# Altium schematic symbol library WWJ_BIGCOINER_ES04.SCHLIB: 38 symbols
Pins are listed as number, name and electrical type; pins without a type are passive.

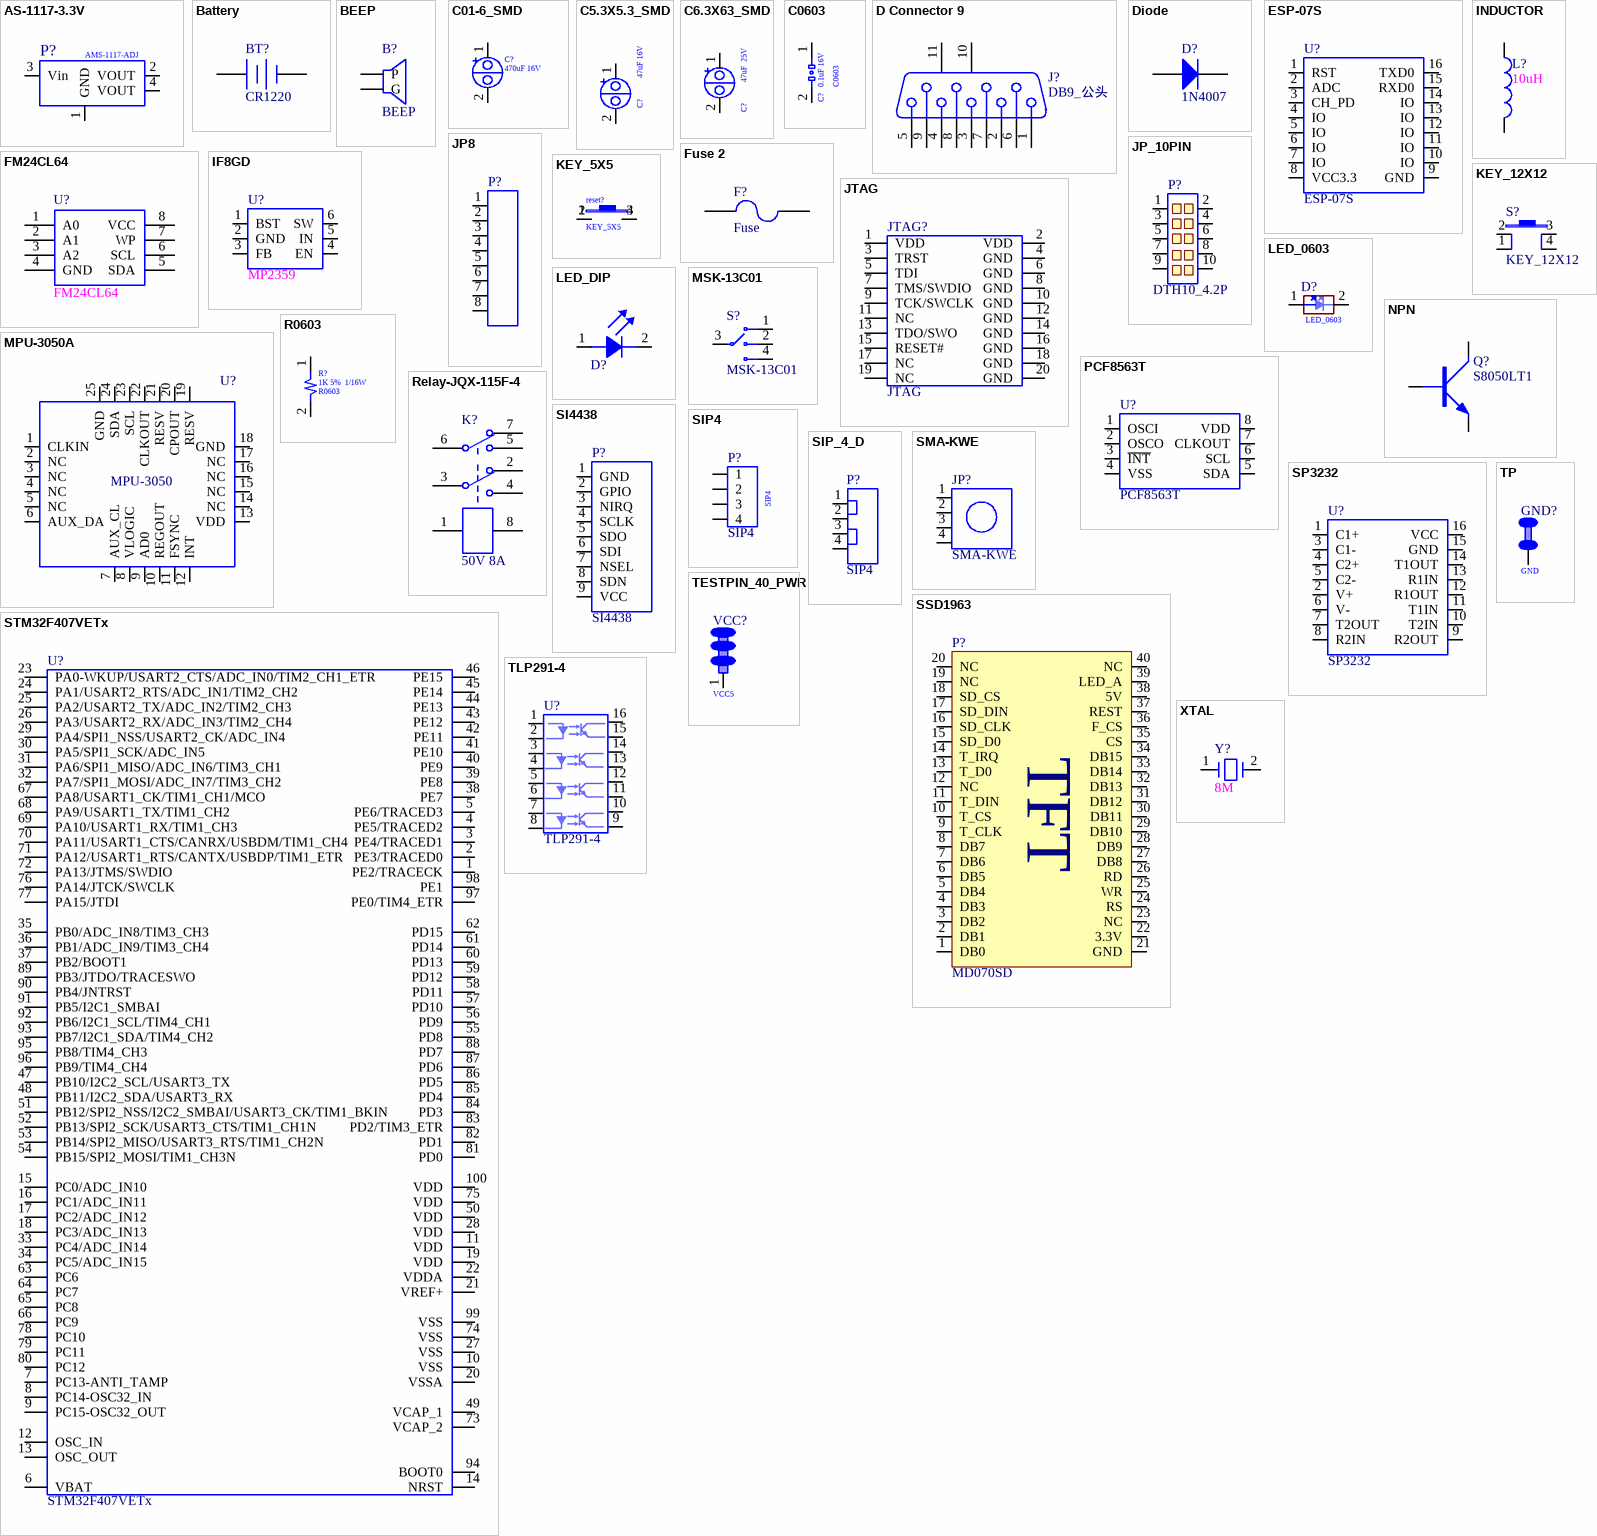
[diagram p0: symbols AS-1117-3.3V to XTAL]

## AS-1117-3.3V
designator P?, comment AMS-1117-ADJ
Value: AMS-1117-ADJ
footprint SOT_223 (ASM117_3.3 packgae)
pins: 1 GND, 2 VOUT, 3 Vin, 4 VOUT

## Battery
designator BT?, comment CR1220
Multicell Battery; Published: 24-Mar-1999; LatestRevisionDate: 17-Jul-2002; LatestRevisionNote: Re-released for DXP Platform.; PackageReference: BAT-2; Publisher: Altium Limited; PackageDescription: Battery; 2 Leads
footprint CR1220
pins: 1 +, 2 -
2 alternate drawings of the same symbol

## BEEP
designator B?
footprint BELL-5
pins: 1 P, 2 G

## C01-6_SMD
designator C?  value 470uF 16V  (hidden comment: C01-6_SMD)
CLASS: DISCRETE; Type: SMD; DEVICE: C01-6_SMD
footprint C10X10.5
pins: 1, 2

## C5.3X5.3_SMD
designator C?  value 47uF 16V  (hidden comment: C5.3X5.3_SMD)
CLASS: DISCRETE; Type: SMD; DEVICE: C5.3X5.3_SMD
footprint C5.3X5.3
pins: 1, 2

## C6.3X63_SMD
designator C?, comment value 47uF  25V  (hidden comment: C6.3X6.3_SMD)
Type: SMD; CLASS: DISCRETE; DEVICE: C6.3X6.3_SMD
footprint C6.3x6.3
pins: 1, 2

## C0603
designator C?  value 0.1uF 16V  (hidden comment: C0603)
CLASS: DISCRETE; Type: SMD; DEVICE: C0603; Value_1: C0603
footprint C0603
pins: 1, 2

## D Connector 9
designator J?, comment DB9_公头
Receptacle Assembly, 9 Position, Right Angle; PackageDocument: O; Positions: 9; Published: 15-Jun-2001; LatestRevisionDate: 17-Jul-2002; LatestRevisionNote: Re-released for DXP Platform.; DatasheetDocument: 1-Sep-1999; PackageReference: 788750; Publisher: Altium Limited; Orientation: Right Angle; Gender: Receptacle
footprint DSUB1.385-2H9 (Connector; D Subminiature; 9 Position; Right Angle; Pitch 1.385 mm)
signal-integrity model Connector
pins: 1, 2, 3, 4, 5, 6, 7, 8, 9, 10 MH1, 11 MH2

## Diode
designator D?, comment 1N4007
Default Diode; Published: 8-Jun-2000; LatestRevisionDate: 17-Jul-2002; LatestRevisionNote: Re-released for DXP Platform.; PackageVersion: Sep-1996; PackageReference: SMC; Publisher: Altium Limited; PackageDescription: DO-214-AB/SMC; 2 C-Bend Leads; Body 7.9 x 5.9 mm, inc. leads (LxW); Code_JEDEC: DO-214-AB
simulation model DIODE (Diode)
signal-integrity model Diode
footprint SMA
pins: 1 A, 2 K

## ESP-07S
designator U?
footprint ESP-07S
pins: 1 RST, 2 ADC, 3 CH_PD, 4 IO, 5 IO, 6 IO, 7 IO, 8 VCC3.3, 9 GND, 10 IO, 11 IO, 12 IO, 13 IO, 14 IO, 15 RXD0, 16 TXD0

## FM24CL64
designator U?
footprint SO-8
pins: 1 A0, 2 A1, 3 A2, 4 GND, 5 SDA, 6 SCL, 7 WP, 8 VCC

## Fuse 2
designator F?, comment Fuse
Published: 8-Jun-2000; LatestRevisionDate: 17-Jul-2002; LatestRevisionNote: Re-released for DXP Platform.; PackageReference: PIN-W2/E2.8; Publisher: Altium Limited; PackageDescription: Thru-Hole; 2 Leads
simulation model FUSE (Spice Subcircuit)
footprint R1210
pins: 1, 2

## IF8GD
designator U?, comment MP2359
footprint IF8GD
pins: 1 BST, 2 GND, 3 FB, 4 EN, 5 IN, 6 SW

## INDUCTOR
designator L?, comment 10uH
footprint L78X70MM_PIHD (L_78X70MM_PIHD)
pins: 1, 2

## JP8
designator P?
footprint DT11_8
pins: 1, 2, 3, 4, 5, 6, 7, 8

## JP_10PIN
designator P?, comment DTH10_4.2P
footprint 5557-10P
pins: 1, 2, 3, 4, 5, 6, 7, 8, 9, 10

## JTAG
designator JTAG?
footprint JTAG (ULINK_JTAG-20)
footprint JTAG_20
pins: 1 VDD, 2 VDD, 3 TRST, 4 GND, 5 TDI, 6 GND, 7 TMS/SWDIO, 8 GND, 9 TCK/SWCLK, 10 GND, 11 NC, 12 GND, 13 TDO/SWO, 14 GND, 15 RESET#, 16 GND, 17 NC, 18 GND, 19 NC, 20 GND

## KEY_5X5
designator reset?
footprint SW-RESET
pins: 1, 2, 3, 4

## KEY_12X12
designator S?
footprint KEY12X12
pins: 1, 2, 3, 4

## LED_0603
designator D?
Type: SMD; DEVICE: LED_0805; CLASS: DISCRETE; Value: LED_0603
footprint LED_0603
pins: 1, 2

## LED_DIP
designator D?  (value not drawn)
Value: DIODE
footprint LED_0603
pins: 1 A, 2 K

## MPU-3050A
designator U?, comment MPU-3050
footprint QFN50P400X400X90_HS-25N (QFN, 24-Leads, Body 4.00x4.00mm, Pitch 0.50mm, Thermal Pad 2.80x2.80mm, IPC Medium Density)
pins: 1 CLKIN, 2 NC, 3 NC, 4 NC, 5 NC, 6 AUX_DA, 7 AUX_CL, 8 VLOGIC, 9 AD0, 10 REGOUT, 11 FSYNC, 12 INT, 13 VDD, 14 NC, 15 NC, 16 NC, 17 NC, 18 GND, 19 RESV, 20 CPOUT, 21 RESV, 22 CLKOUT, 23 SCL, 24 SDA, 25 GND

## MSK-13C01
designator S?
footprint MSK-13C01
pins: 1, 2, 3, 4

## NPN
designator Q?, comment S8050LT1
footprint SOT-23-2
pins: B, C, E

## PCF8563T
designator U?
footprint SO-8
footprint SO-8
pins: 1 OSCI, 2 OSCO, 3 ~{INT}, 4 VSS, 5 SDA, 6 SCL, 7 CLKOUT, 8 VDD

## R0603
designator R?  value 1K 5%  1/16W  (hidden comment: R0603)
CLASS: DISCRETE; DEVICE: R0603; Type: SMD; Value_1: R0603
footprint R0603
pins: 1, 2

## Relay-JQX-115F-4
designator K?, comment 50V 8A
Dual-Pole Dual-Throw Relay; LatestRevisionDate: JQX-115F-4; PackageReference: DIP-P8; PackageDescription: Relay; 8 Leads
footprint JQX-115F-4
pins: 1, 2, 3, 4, 5, 6, 7, 8

## SI4438
designator P?
footprint SI4438
pins: 1 GND, 2 GPIO, 3 NIRQ, 4 SCLK, 5 SDO, 6 SDI, 7 NSEL, 8 SDN, 9 VCC

## SIP4
designator P?
Value: SIP4
footprint DT11
pins: 1, 2, 3, 4

## SIP_4_D
designator P?, comment SIP4
footprint DHT11
pins: 1, 2, 3, 4

## SMA-KWE
designator JP?
footprint MCX5.08-H5 (Connector; RF Coaxial, MCX, Thru-Hole; 5 Position; Right-Angle)
pins: 1, 2, 3, 4

## SP3232
designator U?
footprint SOIC16 (Small Outline; 16 Leads; Body Width 3.9 mm; Pitch 1.27 mm)
pins: 1 C1+, 2 V+, 3 C1-, 4 C2+, 5 C2-, 6 V-, 7 T2OUT, 8 R2IN, 9 R2OUT, 10 T2IN, 11 T1IN, 12 R1OUT, 13 R1IN, 14 T1OUT, 15 GND, 16 VCC

## SSD1963
designator P?, comment MD070SD
footprint MD070SD_40 (Connector; Header; 20x2 Position)
pins: 1 DB0, 2 DB1, 3 DB2, 4 DB3, 5 DB4, 6 DB5, 7 DB6, 8 DB7, 9 T_CLK, 10 T_CS, 11 T_DIN, 12 NC, 13 T_D0, 14 T_IRQ, 15 SD_D0, 16 SD_CLK, 17 SD_DIN, 18 SD_CS, 19 NC, 20 NC, 21 GND, 22 3.3V, 23 NC, 24 RS, 25 WR, 26 RD, 27 DB8, 28 DB9, 29 DB10, 30 DB11, 31 DB12, 32 DB13, 33 DB14, 34 DB15, 35 CS, 36 F_CS, 37 REST, 38 5V, 39 LED_A, 40 NC
text: TFT

## STM32F407VETx
designator U?
footprint LQFP100 (TSQFP, 100-Leads, Body 16.0x16.0mm (max), Pitch 0.50mm, IPC Medium Density)
pins: 1 PE2/TRACECK, 2 PE3/TRACED0, 3 PE4/TRACED1, 4 PE5/TRACED2, 5 PE6/TRACED3, 6 VBAT, 7 PC13-ANTI_TAMP, 8 PC14-OSC32_IN, 9 PC15-OSC32_OUT, 10 VSS, 11 VDD, 12 OSC_IN, 13 OSC_OUT, 14 NRST, 15 PC0/ADC_IN10, 16 PC1/ADC_IN11, 17 PC2/ADC_IN12, 18 PC3/ADC_IN13, 19 VDD, 20 VSSA, 21 VREF+, 22 VDDA, 23 PA0-WKUP/USART2_CTS/ADC_IN0/TIM2_CH1_ETR, 24 PA1/USART2_RTS/ADC_IN1/TIM2_CH2, 25 PA2/USART2_TX/ADC_IN2/TIM2_CH3, 26 PA3/USART2_RX/ADC_IN3/TIM2_CH4, 27 VSS, 28 VDD, 29 PA4/SPI1_NSS/USART2_CK/ADC_IN4, 30 PA5/SPI1_SCK/ADC_IN5, 31 PA6/SPI1_MISO/ADC_IN6/TIM3_CH1, 32 PA7/SPI1_MOSI/ADC_IN7/TIM3_CH2, 33 PC4/ADC_IN14, 34 PC5/ADC_IN15, 35 PB0/ADC_IN8/TIM3_CH3, 36 PB1/ADC_IN9/TIM3_CH4, 37 PB2/BOOT1, 38 PE7, 39 PE8, 40 PE9, 41 PE10, 42 PE11, 43 PE12, 44 PE13, 45 PE14, 46 PE15, 47 PB10/I2C2_SCL/USART3_TX, 48 PB11/I2C2_SDA/USART3_RX, 49 VCAP_1, 50 VDD, 51 PB12/SPI2_NSS/I2C2_SMBAI/USART3_CK/TIM1_BKIN, 52 PB13/SPI2_SCK/USART3_CTS/TIM1_CH1N, 53 PB14/SPI2_MISO/USART3_RTS/TIM1_CH2N, 54 PB15/SPI2_MOSI/TIM1_CH3N, 55 PD8, 56 PD9, 57 PD10, 58 PD11, 59 PD12, 60 PD13, 61 PD14, 62 PD15, 63 PC6, 64 PC7, 65 PC8, 66 PC9, 67 PA8/USART1_CK/TIM1_CH1/MCO, 68 PA9/USART1_TX/TIM1_CH2, 69 PA10/USART1_RX/TIM1_CH3, 70 PA11/USART1_CTS/CANRX/USBDM/TIM1_CH4, 71 PA12/USART1_RTS/CANTX/USBDP/TIM1_ETR, 72 PA13/JTMS/SWDIO, 73 VCAP_2, 74 VSS, 75 VDD, 76 PA14/JTCK/SWCLK, 77 PA15/JTDI, 78 PC10, 79 PC11, 80 PC12, 81 PD0, 82 PD1, 83 PD2/TIM3_ETR, 84 PD3, 85 PD4, 86 PD5, 87 PD6, 88 PD7, 89 PB3/JTDO/TRACESWO, 90 PB4/JNTRST, 91 PB5/I2C1_SMBAI, 92 PB6/I2C1_SCL/TIM4_CH1, 93 PB7/I2C1_SDA/TIM4_CH2, 94 BOOT0, 95 PB8/TIM4_CH3, 96 PB9/TIM4_CH4, 97 PE0/TIM4_ETR, 98 PE1, 99 VSS, 100 VDD

## TESTPIN_40_PWR
designator VCC?, comment value VCC5  (hidden comment: TEST40_PWR)
CLASS: DISCRETE; DEVICE: TESTPIN_40; Type: DIP
footprint TESTPIN_40
pins: 1

## TLP291-4
designator U?
footprint SO-16 (Small Outline; 16 Leads; Body Width 5.6 mm; Pitch 1.27 mm)
pins: 1, 2, 3, 4, 5, 6, 7, 8, 9, 10, 11, 12, 13, 14, 15, 16

## TP
designator GND?  value GND  (hidden comment: TP)
CLASS: DISCRETE; DEVICE: GNDPIN_30; Type: DIP
footprint GNDPIN_30
pins: 1

## XTAL
designator Y?, comment 8M
Crystal
footprint XTAL_5032
pins: 1, 2